# Altium integrated library Analog_Devices_Power_Management_Linear_Regulators.IntLib: 441 symbols (part 5 of 23)
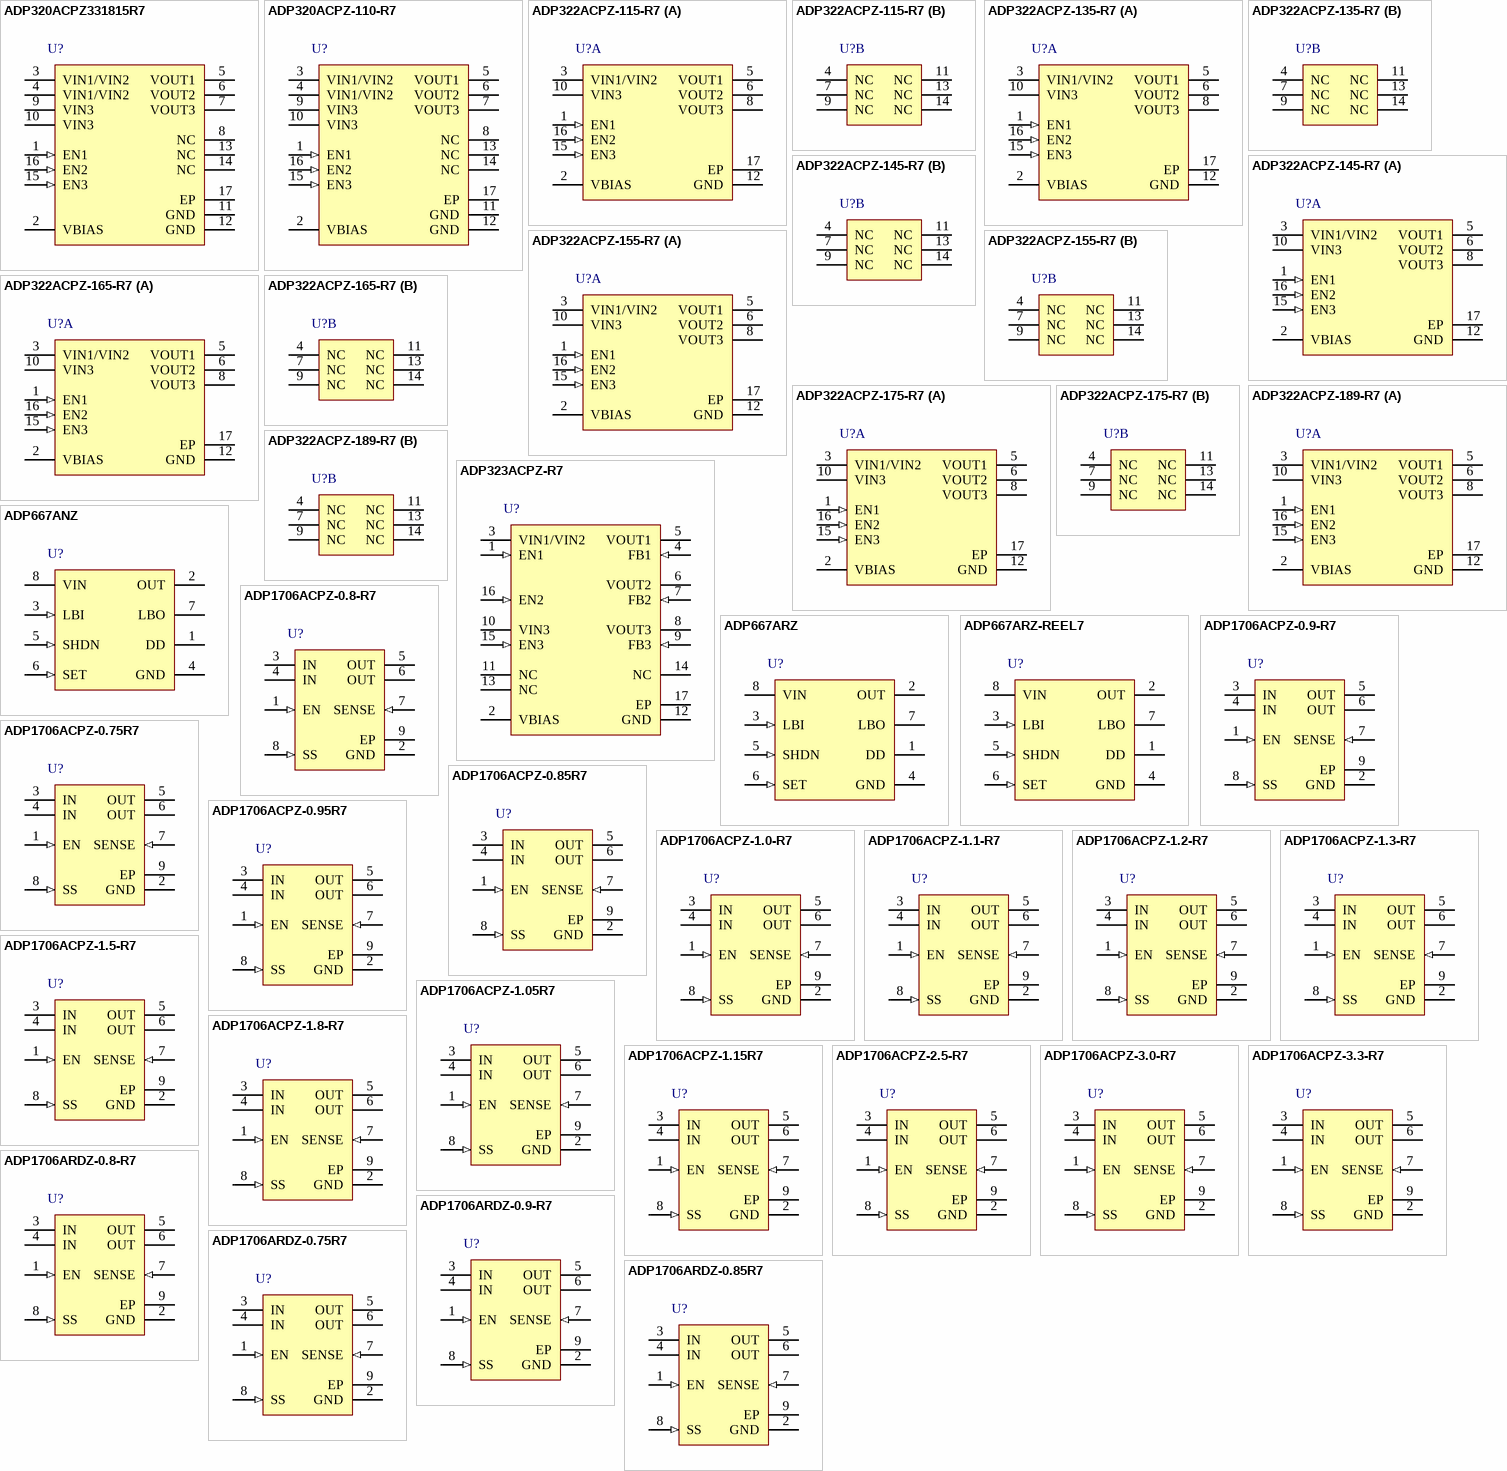
[diagram p15: symbols ADP320ACPZ331815R7 to ADP1706ARDZ-0.85R7]

## ADP322ACPZ-189-R7
designator U?
Triple, 200 mA, Low Noise, High PSRR Voltage Regulator, 2.5 to 5.5 V Vin, 1.2; 1.8; 2.5 V Vout, Industrial, 16-pin QFN (CP-16-27), Reel; Manufacturer: Analog Devices; PartNumber: ADP322ACPZ-189-R7; Iout max: 200mA; Supply Current IGND @ Small Load: 85uA; Vin (max) (V): 5.5; Vin (min) (V): 2.5; DatasheetVersion: Rev. A; PackageVersion: 091609-A, 09/2009; PackageReference: CP-16-27; PackageDescription: 16-Pin Lead Frame Chip Scale Package, Body 3 x 3 mm, Pitch 0.5 mm; Supplier 1: Digi-Key; Supplier Part Number 1: ADP322ACPZ-189-R7TR-ND; Supplier 2: Digi-Key; Supplier Part Number 2: ADP322ACPZ-189-R7CT-ND; Supplier 3: Digi-Key; Supplier Part Number 3: ADP322ACPZ-189-R7DKR-ND; Supplier 4: Mouser; Supplier Part Number 4: 584-ADP322ACPZ-189R7; Packing: Reel; Preset Vout Values (V): 1.2; 1.8; 2.5; Mounting Technology: Surface Mount; Code_JEDEC: MO-229; ComponentLink1Description: Manufacturer URL; ComponentLink1URL: http://www.analog.com/en/index.html; ComponentLink2Description: Datasheet; ComponentLink2URL: http://www.analog.com/static/imported-files/data_sheets/ADP322_323.pdf; ComponentLink3Description: Package Specification; ComponentLink3URL: http://www.analog.com/static/imported-files/packages/PKG_PDF/LFCSP(CP)/CP_16_27.pdf; ComponentLink4Description: URL Link1; ComponentLink4URL: Product URL:http://www.analog.com/en/ADP322/productSearch.html
footprint ADI-CP-16-27_N (QFN, 16-Leads, Body 3x3mm, Pitch 0.5mm, Thermal Pad 1.55X1.55mm, IPC Medium Density)
footprint ADI-CP-16-27_L (QFN, 16-Leads, Body 3x3mm, Pitch 0.5mm, Thermal Pad 1.55X1.55mm, IPC High Density)
footprint ADI-CP-16-27_M (QFN, 16-Leads, Body 3x3mm, Pitch 0.5mm, Thermal Pad 1.55X1.55mm, IPC Low Density)
part A pins: 1 EN1 (in) "Enable Input for Regulator 1. Drive EN1 high to turn on Regulator 1; drive it low to turn off Regulator 1. For automatic startup, connect EN1 to VBIAS.", 2 VBIAS (power) "Input Voltage Bias Supply. Bypass VBIAS to GND with a 1 uF or greater capacitor.", 3 VIN1/VIN2 (power) "Regulator Input Supply for Output Voltage 1 and Output Voltage 2. Bypass VIN1/VIN2 to GND with a 1 uF or greater capacitor.", 5 VOUT1 (power) "Regulated Output Voltage 1. Connect a 1 uF or greater output capacitor between VOUT1 and GND.", 6 VOUT2 (power) "Regulated Output Voltage 2. Connect a 1 uF or greater output capacitor between VOUT2 and GND.", 8 VOUT3 (power) "Regulated Output Voltage 3. Connect a 1 uF or greater output capacitor between VOUT3 and GND.", 10 VIN3 (power) "Regulator Input Supply for Output Voltage 3. Bypass VIN3 to GND with a 1 uF or greater capacitor.", 12 GND (power) "Ground Pin.", 15 EN3 (in) "Enable Input for Regulator 3. Drive EN3 high to turn on Regulator 3; drive it low to turn off Regulator 3. For automatic startup, connect EN3 to VBIAS.", 16 EN2 (in) "Enable Input for Regulator 2. Drive EN3 high to turn on Regulator 2; drive it low to turn off Regulator 2. For automatic startup, connect EN2 to VBIAS.", 17 EP (power) "Exposed pad for enhanced thermal performance. Connect to copper ground plane."
part B pins: 4 NC "Not connected internally.", 7 NC "Not connected internally.", 9 NC "Not connected internally.", 11 NC "Not connected internally.", 13 NC "Not connected internally.", 14 NC "Not connected internally."

## ADP323ACPZ-R7
designator U?
Triple, 200 mA, Low Noise, High PSRR Voltage Regulator, 2.5 to 5.5 V Vin, Adjustable Vout, Industrial, 16-pin QFN (CP-16-27), Reel; Manufacturer: Analog Devices; PartNumber: ADP323ACPZ-R7; Iout max: 200mA; Supply Current IGND @ Small Load: 85uA; Vin (max) (V): 5.5; Vin (min) (V): 2.5; Vout Adjustable Range: 0.5V to 5V; DatasheetVersion: Rev. A; PackageVersion: 091609-A, 09/2009; PackageReference: CP-16-27; PackageDescription: 16-Pin Lead Frame Chip Scale Package, Body 3 x 3 mm, Pitch 0.5 mm; Supplier 1: Digi-Key; Supplier Part Number 1: ADP323ACPZ-R7TR-ND; Supplier 2: Digi-Key; Supplier Part Number 2: ADP323ACPZ-R7CT-ND; Supplier 3: Digi-Key; Supplier Part Number 3: ADP323ACPZ-R7DKR-ND; Supplier 4: Farnell; Supplier Part Number 4: 1872637; Supplier 5: Newark; Supplier Part Number 5: 18T2040; Supplier 6: Mouser; Supplier Part Number 6: 584-ADP323ACPZ-R7; Packing: Reel; Mounting Technology: Surface Mount; Code_JEDEC: MO-229; ComponentLink1Description: Manufacturer URL; ComponentLink1URL: http://www.analog.com/en/index.html; ComponentLink2Description: Datasheet; ComponentLink2URL: http://www.analog.com/static/imported-files/data_sheets/ADP322_323.pdf; ComponentLink3Description: Package Specification; ComponentLink3URL: http://www.analog.com/static/imported-files/packages/PKG_PDF/LFCSP(CP)/CP_16_27.pdf; ComponentLink4Description: URL Link1; ComponentLink4URL: Product URL:http://www.analog.com/en/ADP323/productSearch.html
footprint ADI-CP-16-27_N (QFN, 16-Leads, Body 3x3mm, Pitch 0.5mm, Thermal Pad 1.55X1.55mm, IPC Medium Density)
footprint ADI-CP-16-27_L (QFN, 16-Leads, Body 3x3mm, Pitch 0.5mm, Thermal Pad 1.55X1.55mm, IPC High Density)
footprint ADI-CP-16-27_M (QFN, 16-Leads, Body 3x3mm, Pitch 0.5mm, Thermal Pad 1.55X1.55mm, IPC Low Density)
pins: 1 EN1 (in) "Enable Input for Regulator 1. Drive EN1 high to turn on Regulator 1; drive it low to turn off Regulator 1. For automatic startup, connect EN1 to VBIAS.", 2 VBIAS (power) "Input Voltage Bias Supply. Bypass VBIAS to GND with a 1 uF or greater capacitor.", 3 VIN1/VIN2 (power) "Regulator Input Supply for Output Voltage 1 and Output Voltage 2. Bypass VIN1/VIN2 to GND with a 1 uF or greater capacitor.", 4 FB1 (in) "Connect the midpoint of the voltage divider from VOUT1 to GND to set VOUT1.", 5 VOUT1 (power) "Regulated Output Voltage 1. Connect a 1 uF or greater output capacitor between VOUT1 and GND.", 6 VOUT2 (power) "Regulated Output Voltage 2. Connect a 1 uF or greater output capacitor between VOUT2 and GND.", 7 FB2 (in) "Connect the midpoint of the voltage divider from VOUT2 to GND to set VOUT2.", 8 VOUT3 (power) "Regulated Output Voltage 3. Connect a 1 uF or greater output capacitor between VOUT3 and GND.", 9 FB3 (in) "Connect the midpoint of the voltage divider from VOUT3 to GND to set VOUT3.", 10 VIN3 (power) "Regulator Input Supply for Output Voltage 3. Bypass VIN3 to GND with a 1 uF or greater capacitor.", 11 NC "Not connected internally.", 12 GND (power) "Ground Pin.", 13 NC "Not connected internally.", 14 NC "Not connected internally.", 15 EN3 (in) "Enable Input for Regulator 3. Drive EN3 high to turn on Regulator 3; drive it low to turn off Regulator 3. For automatic startup, connect EN3 to VBIAS.", 16 EN2 (in) "Enable Input for Regulator 2. Drive EN3 high to turn on Regulator 2; drive it low to turn off Regulator 2. For automatic startup, connect EN2 to VBIAS.", 17 EP (power) "Exposed pad for enhanced thermal performance. Connect to copper ground plane."

## ADP667ANZ
designator U?
Low-Dropout Linear Voltage Regulator, 3.5 to 16.5 V Vin, 5 V Vout, Industrial, 8-pin DIP (N-8), Tube; Manufacturer: Analog Devices; PartNumber: ADP667ANZ; Iout max: 250mA; Preset Vout Values (V): 5; Supply Current IGND @ Small Load: 20uA; Vin (max) (V): 16.5; Vin (min) (V): 3.5; Vout Adjustable Range: 1.3V to 16V; DatasheetVersion: Rev. 0; PackageVersion: 070606-A, 07/2006; PackageReference: N-8; PackageDescription: 8-Pin Plastic Dual In-Line Package, Row spacing 7.62 mm, Pitch 2.54 mm; Supplier 1: Digi-Key; Supplier Part Number 1: ADP667ANZ-ND; Supplier 2: Farnell; Supplier Part Number 2: 2376940; Supplier 3: Newark; Supplier Part Number 3: 23X6041; Supplier 4: Newark; Supplier Part Number 4: 59K2648; Supplier 5: Mouser; Supplier Part Number 5: 584-ADP667ANZ; Packing: Tube; Mounting Technology: Through Hole; Code_JEDEC: MS-001; ComponentLink1Description: Manufacturer URL; ComponentLink1URL: http://www.analog.com/en/index.html; ComponentLink2Description: Datasheet; ComponentLink2URL: http://www.analog.com/static/imported-files/data_sheets/ADP667.pdf; ComponentLink3Description: Package Specification; ComponentLink3URL: http:/www.analog.com/static/imported-files/packages/PKG_PDF/PDIP(N)/N_8.pdf; ComponentLink4Description: URL Link1; ComponentLink4URL: Product URL:http://www.analog.com/en/ADP667/productSearch.html
footprint ADI-N-8 (DIP, 8-Leads, Body 9.59x6.6mm, Pitch 2.54mm)
pins: 1 DD (oe) "Dropout Detector Output. PNP collector output which sources current as dropout is reached.", 2 OUT (power) "Regulated Output Voltage. Connect to filter capacitor.", 3 LBI (in) "Low Battery Detect Input. Compared with 1.255 V.", 4 GND (power) "Ground Pin. Must be connected to 0 V.", 5 SHDN (in) "Digital Input. May be used to disable the device so that the power consumption is minimized.", 6 SET (in) "Voltage Setting Input. Connect to GND for +5 V output or connect to resistive divider for adjustable output.", 7 LBO (oc) "Low Battery Detect Output. Open Drain Output that goes low when LBI is below the threshold.", 8 VIN (power) "Voltage Regulator Input."

## ADP667ARZ
designator U?
Low-Dropout Linear Voltage Regulator, 3.5 to 16.5 V Vin, 5 V Vout, Industrial, 8-pin SOIC (R-8), Tube; Manufacturer: Analog Devices; PartNumber: ADP667ARZ; Iout max: 250mA; Preset Vout Values (V): 5; Supply Current IGND @ Small Load: 20uA; Vin (max) (V): 16.5; Vin (min) (V): 3.5; Vout Adjustable Range: 1.3V to 16V; DatasheetVersion: Rev. 0; PackageVersion: 060506-A, 06/2006; PackageReference: R-8; PackageDescription: 8-Pin Standard Small Outline Package, Body 4.9 x 3.9 mm, Pitch 1.27 mm; Supplier 1: Digi-Key; Supplier Part Number 1: ADP667ARZ-ND; Supplier 2: Farnell; Supplier Part Number 2: 2305726; Supplier 3: Newark; Supplier Part Number 3: 84W7359; Supplier 4: Newark; Supplier Part Number 4: 59K2649; Supplier 5: Mouser; Supplier Part Number 5: 584-ADP667ARZ; Packing: Tube; Mounting Technology: Surface Mount; Code_JEDEC: MS-012-AA; ComponentLink1Description: Manufacturer URL; ComponentLink1URL: http://www.analog.com/en/index.html; ComponentLink2Description: Datasheet; ComponentLink2URL: http://www.analog.com/static/imported-files/data_sheets/ADP667.pdf; ComponentLink3Description: Package Specification; ComponentLink3URL: http://www.analog.com/static/imported-files/packages/PKG_PDF/SOIC_Narrow%20(R)/R_8.pdf; ComponentLink4Description: URL Link1; ComponentLink4URL: Product URL:http://www.analog.com/en/ADP667/productSearch.html
footprint ADI-R-8_N (SOIC, 8-Leads, Body 4.9x3.9mm, Pitch 1.27mm, IPC Medium Density)
footprint ADI-R-8_L (SOIC, 8-Leads, Body 4.9x3.9mm, Pitch 1.27mm, IPC High Density)
footprint ADI-R-8_M (SOIC, 8-Leads, Body 4.9x3.9mm, Pitch 1.27mm, IPC Low Density)
pins: 1 DD (oe) "Dropout Detector Output. PNP collector output which sources current as dropout is reached.", 2 OUT (power) "Regulated Output Voltage. Connect to filter capacitor.", 3 LBI (in) "Low Battery Detect Input. Compared with 1.255 V.", 4 GND (power) "Ground Pin. Must be connected to 0 V.", 5 SHDN (in) "Digital Input. May be used to disable the device so that the power consumption is minimized.", 6 SET (in) "Voltage Setting Input. Connect to GND for +5 V output or connect to resistive divider for adjustable output.", 7 LBO (oc) "Low Battery Detect Output. Open Drain Output that goes low when LBI is below the threshold.", 8 VIN (power) "Voltage Regulator Input."

## ADP667ARZ-REEL7
designator U?
Low-Dropout Linear Voltage Regulator, 3.5 to 16.5 V Vin, 5 V Vout, Industrial, 8-pin SOIC (R-8), Reel; Manufacturer: Analog Devices; PartNumber: ADP667ARZ-REEL7; Iout max: 250mA; Preset Vout Values (V): 5; Supply Current IGND @ Small Load: 20uA; Vin (max) (V): 16.5; Vin (min) (V): 3.5; Vout Adjustable Range: 1.3V to 16V; DatasheetVersion: Rev. 0; PackageVersion: 060506-A, 06/2006; PackageReference: R-8; PackageDescription: 8-Pin Standard Small Outline Package, Body 4.9 x 3.9 mm, Pitch 1.27 mm; Supplier 1: Digi-Key; Supplier Part Number 1: ADP667ARZ-REEL7TR-ND; Supplier 2: Digi-Key; Supplier Part Number 2: ADP667ARZ-REEL7CT-ND; Supplier 3: Digi-Key; Supplier Part Number 3: ADP667ARZ-REEL7DKR-ND; Supplier 4: Newark; Supplier Part Number 4: 59K2651; Supplier 5: Mouser; Supplier Part Number 5: 584-ADP667ARZ-R7; Packing: Reel; Mounting Technology: Surface Mount; Code_JEDEC: MS-012-AA; ComponentLink1Description: Manufacturer URL; ComponentLink1URL: http://www.analog.com/en/index.html; ComponentLink2Description: Datasheet; ComponentLink2URL: http://www.analog.com/static/imported-files/data_sheets/ADP667.pdf; ComponentLink3Description: Package Specification; ComponentLink3URL: http://www.analog.com/static/imported-files/packages/PKG_PDF/SOIC_Narrow%20(R)/R_8.pdf; ComponentLink4Description: URL Link1; ComponentLink4URL: Product URL:http://www.analog.com/en/ADP667/productSearch.html
footprint ADI-R-8_N (SOIC, 8-Leads, Body 4.9x3.9mm, Pitch 1.27mm, IPC Medium Density)
footprint ADI-R-8_L (SOIC, 8-Leads, Body 4.9x3.9mm, Pitch 1.27mm, IPC High Density)
footprint ADI-R-8_M (SOIC, 8-Leads, Body 4.9x3.9mm, Pitch 1.27mm, IPC Low Density)
pins: 1 DD (oe) "Dropout Detector Output. PNP collector output which sources current as dropout is reached.", 2 OUT (power) "Regulated Output Voltage. Connect to filter capacitor.", 3 LBI (in) "Low Battery Detect Input. Compared with 1.255 V.", 4 GND (power) "Ground Pin. Must be connected to 0 V.", 5 SHDN (in) "Digital Input. May be used to disable the device so that the power consumption is minimized.", 6 SET (in) "Voltage Setting Input. Connect to GND for +5 V output or connect to resistive divider for adjustable output.", 7 LBO (oc) "Low Battery Detect Output. Open Drain Output that goes low when LBI is below the threshold.", 8 VIN (power) "Voltage Regulator Input."

## ADP1706ACPZ-0.8-R7
designator U?
1 A, Low Dropout, CMOS Linear Regulator, 2.5 to 5.5 V Vin, 0.8 V Vout, Industrial, 8-pin QFN (CP-8-2), Reel; Manufacturer: Analog Devices; PartNumber: ADP1706ACPZ-0.8-R7; Iout max: 1A; Preset Vout Values (V): 0.8; Supply Current IGND @ Small Load: 50uA; Vin (max) (V): 5.5; Vin (min) (V): 2.5; DatasheetVersion: Rev. 0; PackageVersion: 061507-B, 06/2007; PackageReference: CP-8-2; PackageDescription: 8-Pin Lead Frame Chip Scale Package, Body 3 x 3 mm, Pitch 0.5 mm; Supplier 1: Digi-Key; Supplier Part Number 1: ADP1706ACPZ-0.8-R7TR-ND; Supplier 2: Digi-Key; Supplier Part Number 2: ADP1706ACPZ-0.8-R7CT-ND; Supplier 3: Digi-Key; Supplier Part Number 3: ADP1706ACPZ-0.8-R7DKR-ND; Supplier 4: Mouser; Supplier Part Number 4: 584-ADP1706ACPZ0.8R7; Packing: Reel; Mounting Technology: Surface Mount; ComponentLink1Description: Manufacturer URL; ComponentLink1URL: http://www.analog.com/en/index.html; ComponentLink2Description: Datasheet; ComponentLink2URL: http://www.analog.com/static/imported-files/data_sheets/ADP1706_1707_1708.pdf; ComponentLink3Description: Package Specification; ComponentLink3URL: http://www.analog.com/static/imported-files/packages/56953322593982CP_8_2.pdf; ComponentLink4Description: URL Link1; ComponentLink4URL: Product URL:http://www.analog.com/en/ADP1706/productSearch.html
footprint ADI-CP-8-2_N (QFN, 8-Leads, Body 3x3mm, Pitch 0.5mm, Thermal Pad 1.45X1.74mm, IPC Medium Density)
footprint ADI-CP-8-2_L (QFN, 8-Leads, Body 3x3mm, Pitch 0.5mm, Thermal Pad 1.45X1.74mm, IPC High Density)
footprint ADI-CP-8-2_M (QFN, 8-Leads, Body 3x3mm, Pitch 0.5mm, Thermal Pad 1.45X1.74mm, IPC Low Density)
pins: 1 EN (in) "Enable Input. Drive EN high to turn on the regulator; drive it low to turn off the regulator. For automatic startup, connect EN to IN.", 2 GND (power) "Ground.", 3 IN (power) "Regulator Input Supply. Bypass IN to GND with a 4.7 uF or greater capacitor.", 4 IN (power) "Regulator Input Supply. Bypass IN to GND with a 4.7 uF or greater capacitor.", 5 OUT (power) "Regulated Output Voltage. Bypass OUT to GND with a 4.7 uF or greater capacitor.", 6 OUT (power) "Regulated Output Voltage. Bypass OUT to GND with a 4.7 uF or greater capacitor.", 7 SENSE (in) "Sense. Measures the actual output voltage at the load and feeds it to the error amplifier. Connect SENSE as close as possible to the load to minimize the effect of IR drop between the regulator output and the load.", 8 SS (in) "Soft Start. A capacitor connected to this pin determines the soft start time.", 9 EP (power) "The exposed pad on the bottom of the SOIC package and the LFCSP package. EP enhances thermal performance and is electrically connected to GND inside the package. User is recommended to connect EP to the ground plane on the (See Datasheet)"

## ADP1706ACPZ-0.9-R7
designator U?
1 A, Low Dropout, CMOS Linear Regulator, 2.5 to 5.5 V Vin, 0.9 V Vout, Industrial, 8-pin QFN (CP-8-2), Reel; Manufacturer: Analog Devices; PartNumber: ADP1706ACPZ-0.9-R7; Iout max: 1A; Preset Vout Values (V): 0.9; Supply Current IGND @ Small Load: 50uA; Vin (max) (V): 5.5; Vin (min) (V): 2.5; DatasheetVersion: Rev. 0; PackageVersion: 061507-B, 06/2007; PackageReference: CP-8-2; PackageDescription: 8-Pin Lead Frame Chip Scale Package, Body 3 x 3 mm, Pitch 0.5 mm; Supplier 1: Digi-Key; Supplier Part Number 1: ADP1706ACPZ-0.9-R7TR-ND; Supplier 2: Digi-Key; Supplier Part Number 2: ADP1706ACPZ-0.9-R7CT-ND; Supplier 3: Digi-Key; Supplier Part Number 3: ADP1706ACPZ-0.9-R7DKR-ND; Supplier 4: Mouser; Supplier Part Number 4: 584-ADP1706ACPZ0.9R7; Packing: Reel; Mounting Technology: Surface Mount; ComponentLink1Description: Manufacturer URL; ComponentLink1URL: http://www.analog.com/en/index.html; ComponentLink2Description: Datasheet; ComponentLink2URL: http://www.analog.com/static/imported-files/data_sheets/ADP1706_1707_1708.pdf; ComponentLink3Description: Package Specification; ComponentLink3URL: http://www.analog.com/static/imported-files/packages/56953322593982CP_8_2.pdf; ComponentLink4Description: URL Link1; ComponentLink4URL: Product URL:http://www.analog.com/en/ADP1706/productSearch.html
footprint ADI-CP-8-2_N (QFN, 8-Leads, Body 3x3mm, Pitch 0.5mm, Thermal Pad 1.45X1.74mm, IPC Medium Density)
footprint ADI-CP-8-2_L (QFN, 8-Leads, Body 3x3mm, Pitch 0.5mm, Thermal Pad 1.45X1.74mm, IPC High Density)
footprint ADI-CP-8-2_M (QFN, 8-Leads, Body 3x3mm, Pitch 0.5mm, Thermal Pad 1.45X1.74mm, IPC Low Density)
pins: 1 EN (in) "Enable Input. Drive EN high to turn on the regulator; drive it low to turn off the regulator. For automatic startup, connect EN to IN.", 2 GND (power) "Ground.", 3 IN (power) "Regulator Input Supply. Bypass IN to GND with a 4.7 uF or greater capacitor.", 4 IN (power) "Regulator Input Supply. Bypass IN to GND with a 4.7 uF or greater capacitor.", 5 OUT (power) "Regulated Output Voltage. Bypass OUT to GND with a 4.7 uF or greater capacitor.", 6 OUT (power) "Regulated Output Voltage. Bypass OUT to GND with a 4.7 uF or greater capacitor.", 7 SENSE (in) "Sense. Measures the actual output voltage at the load and feeds it to the error amplifier. Connect SENSE as close as possible to the load to minimize the effect of IR drop between the regulator output and the load.", 8 SS (in) "Soft Start. A capacitor connected to this pin determines the soft start time.", 9 EP (power) "The exposed pad on the bottom of the SOIC package and the LFCSP package. EP enhances thermal performance and is electrically connected to GND inside the package. User is recommended to connect EP to the ground plane on the (See Datasheet)"

## ADP1706ACPZ-0.75R7
designator U?
1 A, Low Dropout, CMOS Linear Regulator, 2.5 to 5.5 V Vin, 0.75 V Vout, Industrial, 8-pin QFN (CP-8-2), Reel; Manufacturer: Analog Devices; PartNumber: ADP1706ACPZ-0.75R7; Iout max: 1A; Preset Vout Values (V): 0.75; Supply Current IGND @ Small Load: 50uA; Vin (max) (V): 5.5; Vin (min) (V): 2.5; DatasheetVersion: Rev. 0; PackageVersion: 061507-B, 06/2007; PackageReference: CP-8-2; PackageDescription: 8-Pin Lead Frame Chip Scale Package, Body 3 x 3 mm, Pitch 0.5 mm; Supplier 1: Digi-Key; Supplier Part Number 1: ADP1706ACPZ-0.75R7TR-ND; Supplier 2: Digi-Key; Supplier Part Number 2: ADP1706ACPZ-0.75R7CT-ND; Supplier 3: Digi-Key; Supplier Part Number 3: ADP1706ACPZ-0.75R7DKR-ND; Supplier 4: Mouser; Supplier Part Number 4: 584-AP1706ACPZ0.75R7; Packing: Reel; Mounting Technology: Surface Mount; ComponentLink1Description: Manufacturer URL; ComponentLink1URL: http://www.analog.com/en/index.html; ComponentLink2Description: Datasheet; ComponentLink2URL: http://www.analog.com/static/imported-files/data_sheets/ADP1706_1707_1708.pdf; ComponentLink3Description: Package Specification; ComponentLink3URL: http://www.analog.com/static/imported-files/packages/56953322593982CP_8_2.pdf; ComponentLink4Description: URL Link1; ComponentLink4URL: Product URL:http://www.analog.com/en/ADP1706/productSearch.html
footprint ADI-CP-8-2_N (QFN, 8-Leads, Body 3x3mm, Pitch 0.5mm, Thermal Pad 1.45X1.74mm, IPC Medium Density)
footprint ADI-CP-8-2_L (QFN, 8-Leads, Body 3x3mm, Pitch 0.5mm, Thermal Pad 1.45X1.74mm, IPC High Density)
footprint ADI-CP-8-2_M (QFN, 8-Leads, Body 3x3mm, Pitch 0.5mm, Thermal Pad 1.45X1.74mm, IPC Low Density)
pins: 1 EN (in) "Enable Input. Drive EN high to turn on the regulator; drive it low to turn off the regulator. For automatic startup, connect EN to IN.", 2 GND (power) "Ground.", 3 IN (power) "Regulator Input Supply. Bypass IN to GND with a 4.7 uF or greater capacitor.", 4 IN (power) "Regulator Input Supply. Bypass IN to GND with a 4.7 uF or greater capacitor.", 5 OUT (power) "Regulated Output Voltage. Bypass OUT to GND with a 4.7 uF or greater capacitor.", 6 OUT (power) "Regulated Output Voltage. Bypass OUT to GND with a 4.7 uF or greater capacitor.", 7 SENSE (in) "Sense. Measures the actual output voltage at the load and feeds it to the error amplifier. Connect SENSE as close as possible to the load to minimize the effect of IR drop between the regulator output and the load.", 8 SS (in) "Soft Start. A capacitor connected to this pin determines the soft start time.", 9 EP (power) "The exposed pad on the bottom of the SOIC package and the LFCSP package. EP enhances thermal performance and is electrically connected to GND inside the package. User is recommended to connect EP to the ground plane on the (See Datasheet)"

## ADP1706ACPZ-0.85R7
designator U?
1 A, Low Dropout, CMOS Linear Regulator, 2.5 to 5.5 V Vin, 0.85 V Vout, Industrial, 8-pin QFN (CP-8-2), Reel; Manufacturer: Analog Devices; PartNumber: ADP1706ACPZ-0.85R7; Iout max: 1A; Preset Vout Values (V): 0.85; Supply Current IGND @ Small Load: 50uA; Vin (max) (V): 5.5; Vin (min) (V): 2.5; DatasheetVersion: Rev. 0; PackageVersion: 061507-B, 06/2007; PackageReference: CP-8-2; PackageDescription: 8-Pin Lead Frame Chip Scale Package, Body 3 x 3 mm, Pitch 0.5 mm; Supplier 1: Digi-Key; Supplier Part Number 1: ADP1706ACPZ-0.85R7TR-ND; Supplier 2: Digi-Key; Supplier Part Number 2: ADP1706ACPZ-0.85R7CT-ND; Supplier 3: Digi-Key; Supplier Part Number 3: ADP1706ACPZ-0.85R7DKR-ND; Supplier 4: Mouser; Supplier Part Number 4: 584-AP1706ACPZ0.85R7; Packing: Reel; Mounting Technology: Surface Mount; ComponentLink1Description: Manufacturer URL; ComponentLink1URL: http://www.analog.com/en/index.html; ComponentLink2Description: Datasheet; ComponentLink2URL: http://www.analog.com/static/imported-files/data_sheets/ADP1706_1707_1708.pdf; ComponentLink3Description: Package Specification; ComponentLink3URL: http://www.analog.com/static/imported-files/packages/56953322593982CP_8_2.pdf; ComponentLink4Description: URL Link1; ComponentLink4URL: Product URL:http://www.analog.com/en/ADP1706/productSearch.html
footprint ADI-CP-8-2_N (QFN, 8-Leads, Body 3x3mm, Pitch 0.5mm, Thermal Pad 1.45X1.74mm, IPC Medium Density)
footprint ADI-CP-8-2_L (QFN, 8-Leads, Body 3x3mm, Pitch 0.5mm, Thermal Pad 1.45X1.74mm, IPC High Density)
footprint ADI-CP-8-2_M (QFN, 8-Leads, Body 3x3mm, Pitch 0.5mm, Thermal Pad 1.45X1.74mm, IPC Low Density)
pins: 1 EN (in) "Enable Input. Drive EN high to turn on the regulator; drive it low to turn off the regulator. For automatic startup, connect EN to IN.", 2 GND (power) "Ground.", 3 IN (power) "Regulator Input Supply. Bypass IN to GND with a 4.7 uF or greater capacitor.", 4 IN (power) "Regulator Input Supply. Bypass IN to GND with a 4.7 uF or greater capacitor.", 5 OUT (power) "Regulated Output Voltage. Bypass OUT to GND with a 4.7 uF or greater capacitor.", 6 OUT (power) "Regulated Output Voltage. Bypass OUT to GND with a 4.7 uF or greater capacitor.", 7 SENSE (in) "Sense. Measures the actual output voltage at the load and feeds it to the error amplifier. Connect SENSE as close as possible to the load to minimize the effect of IR drop between the regulator output and the load.", 8 SS (in) "Soft Start. A capacitor connected to this pin determines the soft start time.", 9 EP (power) "The exposed pad on the bottom of the SOIC package and the LFCSP package. EP enhances thermal performance and is electrically connected to GND inside the package. User is recommended to connect EP to the ground plane on the (See Datasheet)"

## ADP1706ACPZ-0.95R7
designator U?
1 A, Low Dropout, CMOS Linear Regulator, 2.5 to 5.5 V Vin, 0.95 V Vout, Industrial, 8-pin QFN (CP-8-2), Reel; Manufacturer: Analog Devices; PartNumber: ADP1706ACPZ-0.95R7; Iout max: 1A; Preset Vout Values (V): 0.95; Supply Current IGND @ Small Load: 50uA; Vin (max) (V): 5.5; Vin (min) (V): 2.5; DatasheetVersion: Rev. 0; PackageVersion: 061507-B, 06/2007; PackageReference: CP-8-2; PackageDescription: 8-Pin Lead Frame Chip Scale Package, Body 3 x 3 mm, Pitch 0.5 mm; Supplier 1: Digi-Key; Supplier Part Number 1: ADP1706ACPZ-0.95R7TR-ND; Supplier 2: Digi-Key; Supplier Part Number 2: ADP1706ACPZ-0.95R7CT-ND; Supplier 3: Digi-Key; Supplier Part Number 3: ADP1706ACPZ-0.95R7DKR-ND; Supplier 4: Mouser; Supplier Part Number 4: 584-AP1706ACPZ0.95R7; Packing: Reel; Mounting Technology: Surface Mount; ComponentLink1Description: Manufacturer URL; ComponentLink1URL: http://www.analog.com/en/index.html; ComponentLink2Description: Datasheet; ComponentLink2URL: http://www.analog.com/static/imported-files/data_sheets/ADP1706_1707_1708.pdf; ComponentLink3Description: Package Specification; ComponentLink3URL: http://www.analog.com/static/imported-files/packages/56953322593982CP_8_2.pdf; ComponentLink4Description: URL Link1; ComponentLink4URL: Product URL:http://www.analog.com/en/ADP1706/productSearch.html
footprint ADI-CP-8-2_N (QFN, 8-Leads, Body 3x3mm, Pitch 0.5mm, Thermal Pad 1.45X1.74mm, IPC Medium Density)
footprint ADI-CP-8-2_L (QFN, 8-Leads, Body 3x3mm, Pitch 0.5mm, Thermal Pad 1.45X1.74mm, IPC High Density)
footprint ADI-CP-8-2_M (QFN, 8-Leads, Body 3x3mm, Pitch 0.5mm, Thermal Pad 1.45X1.74mm, IPC Low Density)
pins: 1 EN (in) "Enable Input. Drive EN high to turn on the regulator; drive it low to turn off the regulator. For automatic startup, connect EN to IN.", 2 GND (power) "Ground.", 3 IN (power) "Regulator Input Supply. Bypass IN to GND with a 4.7 uF or greater capacitor.", 4 IN (power) "Regulator Input Supply. Bypass IN to GND with a 4.7 uF or greater capacitor.", 5 OUT (power) "Regulated Output Voltage. Bypass OUT to GND with a 4.7 uF or greater capacitor.", 6 OUT (power) "Regulated Output Voltage. Bypass OUT to GND with a 4.7 uF or greater capacitor.", 7 SENSE (in) "Sense. Measures the actual output voltage at the load and feeds it to the error amplifier. Connect SENSE as close as possible to the load to minimize the effect of IR drop between the regulator output and the load.", 8 SS (in) "Soft Start. A capacitor connected to this pin determines the soft start time.", 9 EP (power) "The exposed pad on the bottom of the SOIC package and the LFCSP package. EP enhances thermal performance and is electrically connected to GND inside the package. User is recommended to connect EP to the ground plane on the (See Datasheet)"

## ADP1706ACPZ-1.0-R7
designator U?
1 A, Low Dropout, CMOS Linear Regulator, 2.5 to 5.5 V Vin, 1 V Vout, Industrial, 8-pin QFN (CP-8-2), Reel; Manufacturer: Analog Devices; PartNumber: ADP1706ACPZ-1.0-R7; Iout max: 1A; Preset Vout Values (V): 1.0; Supply Current IGND @ Small Load: 50uA; Vin (max) (V): 5.5; Vin (min) (V): 2.5; DatasheetVersion: Rev. 0; PackageVersion: 061507-B, 06/2007; PackageReference: CP-8-2; PackageDescription: 8-Pin Lead Frame Chip Scale Package, Body 3 x 3 mm, Pitch 0.5 mm; Supplier 1: Digi-Key; Supplier Part Number 1: ADP1706ACPZ-1.0-R7TR-ND; Supplier 2: Digi-Key; Supplier Part Number 2: ADP1706ACPZ-1.0-R7CT-ND; Supplier 3: Digi-Key; Supplier Part Number 3: ADP1706ACPZ-1.0-R7DKR-ND; Supplier 4: Mouser; Supplier Part Number 4: 584-ADP1706ACPZ1.0R7; Packing: Reel; Mounting Technology: Surface Mount; ComponentLink1Description: Manufacturer URL; ComponentLink1URL: http://www.analog.com/en/index.html; ComponentLink2Description: Datasheet; ComponentLink2URL: http://www.analog.com/static/imported-files/data_sheets/ADP1706_1707_1708.pdf; ComponentLink3Description: Package Specification; ComponentLink3URL: http://www.analog.com/static/imported-files/packages/56953322593982CP_8_2.pdf; ComponentLink4Description: URL Link1; ComponentLink4URL: Product URL:http://www.analog.com/en/ADP1706/productSearch.html
footprint ADI-CP-8-2_N (QFN, 8-Leads, Body 3x3mm, Pitch 0.5mm, Thermal Pad 1.45X1.74mm, IPC Medium Density)
footprint ADI-CP-8-2_L (QFN, 8-Leads, Body 3x3mm, Pitch 0.5mm, Thermal Pad 1.45X1.74mm, IPC High Density)
footprint ADI-CP-8-2_M (QFN, 8-Leads, Body 3x3mm, Pitch 0.5mm, Thermal Pad 1.45X1.74mm, IPC Low Density)
pins: 1 EN (in) "Enable Input. Drive EN high to turn on the regulator; drive it low to turn off the regulator. For automatic startup, connect EN to IN.", 2 GND (power) "Ground.", 3 IN (power) "Regulator Input Supply. Bypass IN to GND with a 4.7 uF or greater capacitor.", 4 IN (power) "Regulator Input Supply. Bypass IN to GND with a 4.7 uF or greater capacitor.", 5 OUT (power) "Regulated Output Voltage. Bypass OUT to GND with a 4.7 uF or greater capacitor.", 6 OUT (power) "Regulated Output Voltage. Bypass OUT to GND with a 4.7 uF or greater capacitor.", 7 SENSE (in) "Sense. Measures the actual output voltage at the load and feeds it to the error amplifier. Connect SENSE as close as possible to the load to minimize the effect of IR drop between the regulator output and the load.", 8 SS (in) "Soft Start. A capacitor connected to this pin determines the soft start time.", 9 EP (power) "The exposed pad on the bottom of the SOIC package and the LFCSP package. EP enhances thermal performance and is electrically connected to GND inside the package. User is recommended to connect EP to the ground plane on the (See Datasheet)"

## ADP1706ACPZ-1.1-R7
designator U?
1 A, Low Dropout, CMOS Linear Regulator, 2.5 to 5.5 V Vin, 1.1 V Vout, Industrial, 8-pin QFN (CP-8-2), Reel; Manufacturer: Analog Devices; PartNumber: ADP1706ACPZ-1.1-R7; Iout max: 1A; Preset Vout Values (V): 1.1; Supply Current IGND @ Small Load: 50uA; Vin (max) (V): 5.5; Vin (min) (V): 2.5; DatasheetVersion: Rev. 0; PackageVersion: 061507-B, 06/2007; PackageReference: CP-8-2; PackageDescription: 8-Pin Lead Frame Chip Scale Package, Body 3 x 3 mm, Pitch 0.5 mm; Supplier 1: Digi-Key; Supplier Part Number 1: ADP1706ACPZ-1.1-R7TR-ND; Supplier 2: Digi-Key; Supplier Part Number 2: ADP1706ACPZ-1.1-R7CT-ND; Supplier 3: Digi-Key; Supplier Part Number 3: ADP1706ACPZ-1.1-R7DKR-ND; Supplier 4: Mouser; Supplier Part Number 4: 584-ADP1706ACPZ1.1R7; Packing: Reel; Mounting Technology: Surface Mount; ComponentLink1Description: Manufacturer URL; ComponentLink1URL: http://www.analog.com/en/index.html; ComponentLink2Description: Datasheet; ComponentLink2URL: http://www.analog.com/static/imported-files/data_sheets/ADP1706_1707_1708.pdf; ComponentLink3Description: Package Specification; ComponentLink3URL: http://www.analog.com/static/imported-files/packages/56953322593982CP_8_2.pdf; ComponentLink4Description: URL Link1; ComponentLink4URL: Product URL:http://www.analog.com/en/ADP1706/productSearch.html
footprint ADI-CP-8-2_N (QFN, 8-Leads, Body 3x3mm, Pitch 0.5mm, Thermal Pad 1.45X1.74mm, IPC Medium Density)
footprint ADI-CP-8-2_L (QFN, 8-Leads, Body 3x3mm, Pitch 0.5mm, Thermal Pad 1.45X1.74mm, IPC High Density)
footprint ADI-CP-8-2_M (QFN, 8-Leads, Body 3x3mm, Pitch 0.5mm, Thermal Pad 1.45X1.74mm, IPC Low Density)
pins: 1 EN (in) "Enable Input. Drive EN high to turn on the regulator; drive it low to turn off the regulator. For automatic startup, connect EN to IN.", 2 GND (power) "Ground.", 3 IN (power) "Regulator Input Supply. Bypass IN to GND with a 4.7 uF or greater capacitor.", 4 IN (power) "Regulator Input Supply. Bypass IN to GND with a 4.7 uF or greater capacitor.", 5 OUT (power) "Regulated Output Voltage. Bypass OUT to GND with a 4.7 uF or greater capacitor.", 6 OUT (power) "Regulated Output Voltage. Bypass OUT to GND with a 4.7 uF or greater capacitor.", 7 SENSE (in) "Sense. Measures the actual output voltage at the load and feeds it to the error amplifier. Connect SENSE as close as possible to the load to minimize the effect of IR drop between the regulator output and the load.", 8 SS (in) "Soft Start. A capacitor connected to this pin determines the soft start time.", 9 EP (power) "The exposed pad on the bottom of the SOIC package and the LFCSP package. EP enhances thermal performance and is electrically connected to GND inside the package. User is recommended to connect EP to the ground plane on the (See Datasheet)"

## ADP1706ACPZ-1.2-R7
designator U?
1 A, Low Dropout, CMOS Linear Regulator, 2.5 to 5.5 V Vin, 1.2 V Vout, Industrial, 8-pin QFN (CP-8-2), Reel; Manufacturer: Analog Devices; PartNumber: ADP1706ACPZ-1.2-R7; Iout max: 1A; Preset Vout Values (V): 1.2; Supply Current IGND @ Small Load: 50uA; Vin (max) (V): 5.5; Vin (min) (V): 2.5; DatasheetVersion: Rev. 0; PackageVersion: 061507-B, 06/2007; PackageReference: CP-8-2; PackageDescription: 8-Pin Lead Frame Chip Scale Package, Body 3 x 3 mm, Pitch 0.5 mm; Supplier 1: Digi-Key; Supplier Part Number 1: ADP1706ACPZ-1.2-R7TR-ND; Supplier 2: Digi-Key; Supplier Part Number 2: ADP1706ACPZ-1.2-R7CT-ND; Supplier 3: Digi-Key; Supplier Part Number 3: ADP1706ACPZ-1.2-R7DKR-ND; Supplier 4: Mouser; Supplier Part Number 4: 584-ADP1706ACPZ1.2R7; Packing: Reel; Mounting Technology: Surface Mount; ComponentLink1Description: Manufacturer URL; ComponentLink1URL: http://www.analog.com/en/index.html; ComponentLink2Description: Datasheet; ComponentLink2URL: http://www.analog.com/static/imported-files/data_sheets/ADP1706_1707_1708.pdf; ComponentLink3Description: Package Specification; ComponentLink3URL: http://www.analog.com/static/imported-files/packages/56953322593982CP_8_2.pdf; ComponentLink4Description: URL Link1; ComponentLink4URL: Product URL:http://www.analog.com/en/ADP1706/productSearch.html
footprint ADI-CP-8-2_N (QFN, 8-Leads, Body 3x3mm, Pitch 0.5mm, Thermal Pad 1.45X1.74mm, IPC Medium Density)
footprint ADI-CP-8-2_L (QFN, 8-Leads, Body 3x3mm, Pitch 0.5mm, Thermal Pad 1.45X1.74mm, IPC High Density)
footprint ADI-CP-8-2_M (QFN, 8-Leads, Body 3x3mm, Pitch 0.5mm, Thermal Pad 1.45X1.74mm, IPC Low Density)
pins: 1 EN (in) "Enable Input. Drive EN high to turn on the regulator; drive it low to turn off the regulator. For automatic startup, connect EN to IN.", 2 GND (power) "Ground.", 3 IN (power) "Regulator Input Supply. Bypass IN to GND with a 4.7 uF or greater capacitor.", 4 IN (power) "Regulator Input Supply. Bypass IN to GND with a 4.7 uF or greater capacitor.", 5 OUT (power) "Regulated Output Voltage. Bypass OUT to GND with a 4.7 uF or greater capacitor.", 6 OUT (power) "Regulated Output Voltage. Bypass OUT to GND with a 4.7 uF or greater capacitor.", 7 SENSE (in) "Sense. Measures the actual output voltage at the load and feeds it to the error amplifier. Connect SENSE as close as possible to the load to minimize the effect of IR drop between the regulator output and the load.", 8 SS (in) "Soft Start. A capacitor connected to this pin determines the soft start time.", 9 EP (power) "The exposed pad on the bottom of the SOIC package and the LFCSP package. EP enhances thermal performance and is electrically connected to GND inside the package. User is recommended to connect EP to the ground plane on the (See Datasheet)"

## ADP1706ACPZ-1.3-R7
designator U?
1 A, Low Dropout, CMOS Linear Regulator, 2.5 to 5.5 V Vin, 1.3 V Vout, Industrial, 8-pin QFN (CP-8-2), Reel; Manufacturer: Analog Devices; PartNumber: ADP1706ACPZ-1.3-R7; Iout max: 1A; Preset Vout Values (V): 1.3; Supply Current IGND @ Small Load: 50uA; Vin (max) (V): 5.5; Vin (min) (V): 2.5; DatasheetVersion: Rev. 0; PackageVersion: 061507-B, 06/2007; PackageReference: CP-8-2; PackageDescription: 8-Pin Lead Frame Chip Scale Package, Body 3 x 3 mm, Pitch 0.5 mm; Supplier 1: Digi-Key; Supplier Part Number 1: ADP1706ACPZ-1.3-R7TR-ND; Supplier 2: Digi-Key; Supplier Part Number 2: ADP1706ACPZ-1.3-R7CT-ND; Supplier 3: Digi-Key; Supplier Part Number 3: ADP1706ACPZ-1.3-R7DKR-ND; Supplier 4: Mouser; Supplier Part Number 4: 584-ADP1706ACPZ1.3R7; Packing: Reel; Mounting Technology: Surface Mount; ComponentLink1Description: Manufacturer URL; ComponentLink1URL: http://www.analog.com/en/index.html; ComponentLink2Description: Datasheet; ComponentLink2URL: http://www.analog.com/static/imported-files/data_sheets/ADP1706_1707_1708.pdf; ComponentLink3Description: Package Specification; ComponentLink3URL: http://www.analog.com/static/imported-files/packages/56953322593982CP_8_2.pdf; ComponentLink4Description: URL Link1; ComponentLink4URL: Product URL:http://www.analog.com/en/ADP1706/productSearch.html
footprint ADI-CP-8-2_N (QFN, 8-Leads, Body 3x3mm, Pitch 0.5mm, Thermal Pad 1.45X1.74mm, IPC Medium Density)
footprint ADI-CP-8-2_L (QFN, 8-Leads, Body 3x3mm, Pitch 0.5mm, Thermal Pad 1.45X1.74mm, IPC High Density)
footprint ADI-CP-8-2_M (QFN, 8-Leads, Body 3x3mm, Pitch 0.5mm, Thermal Pad 1.45X1.74mm, IPC Low Density)
pins: 1 EN (in) "Enable Input. Drive EN high to turn on the regulator; drive it low to turn off the regulator. For automatic startup, connect EN to IN.", 2 GND (power) "Ground.", 3 IN (power) "Regulator Input Supply. Bypass IN to GND with a 4.7 uF or greater capacitor.", 4 IN (power) "Regulator Input Supply. Bypass IN to GND with a 4.7 uF or greater capacitor.", 5 OUT (power) "Regulated Output Voltage. Bypass OUT to GND with a 4.7 uF or greater capacitor.", 6 OUT (power) "Regulated Output Voltage. Bypass OUT to GND with a 4.7 uF or greater capacitor.", 7 SENSE (in) "Sense. Measures the actual output voltage at the load and feeds it to the error amplifier. Connect SENSE as close as possible to the load to minimize the effect of IR drop between the regulator output and the load.", 8 SS (in) "Soft Start. A capacitor connected to this pin determines the soft start time.", 9 EP (power) "The exposed pad on the bottom of the SOIC package and the LFCSP package. EP enhances thermal performance and is electrically connected to GND inside the package. User is recommended to connect EP to the ground plane on the (See Datasheet)"

## ADP1706ACPZ-1.5-R7
designator U?
1 A, Low Dropout, CMOS Linear Regulator, 2.5 to 5.5 V Vin, 1.5 V Vout, Industrial, 8-pin QFN (CP-8-2), Reel; Manufacturer: Analog Devices; PartNumber: ADP1706ACPZ-1.5-R7; Iout max: 1A; Preset Vout Values (V): 1.5; Supply Current IGND @ Small Load: 50uA; Vin (max) (V): 5.5; Vin (min) (V): 2.5; DatasheetVersion: Rev. 0; PackageVersion: 061507-B, 06/2007; PackageReference: CP-8-2; PackageDescription: 8-Pin Lead Frame Chip Scale Package, Body 3 x 3 mm, Pitch 0.5 mm; Supplier 1: Digi-Key; Supplier Part Number 1: ADP1706ACPZ-1.5-R7TR-ND; Supplier 2: Digi-Key; Supplier Part Number 2: ADP1706ACPZ-1.5-R7CT-ND; Supplier 3: Digi-Key; Supplier Part Number 3: ADP1706ACPZ-1.5-R7DKR-ND; Supplier 4: Mouser; Supplier Part Number 4: 584-ADP1706ACPZ1.5R7; Packing: Reel; Mounting Technology: Surface Mount; ComponentLink1Description: Manufacturer URL; ComponentLink1URL: http://www.analog.com/en/index.html; ComponentLink2Description: Datasheet; ComponentLink2URL: http://www.analog.com/static/imported-files/data_sheets/ADP1706_1707_1708.pdf; ComponentLink3Description: Package Specification; ComponentLink3URL: http://www.analog.com/static/imported-files/packages/56953322593982CP_8_2.pdf; ComponentLink4Description: URL Link1; ComponentLink4URL: Product URL:http://www.analog.com/en/ADP1706/productSearch.html
footprint ADI-CP-8-2_N (QFN, 8-Leads, Body 3x3mm, Pitch 0.5mm, Thermal Pad 1.45X1.74mm, IPC Medium Density)
footprint ADI-CP-8-2_L (QFN, 8-Leads, Body 3x3mm, Pitch 0.5mm, Thermal Pad 1.45X1.74mm, IPC High Density)
footprint ADI-CP-8-2_M (QFN, 8-Leads, Body 3x3mm, Pitch 0.5mm, Thermal Pad 1.45X1.74mm, IPC Low Density)
pins: 1 EN (in) "Enable Input. Drive EN high to turn on the regulator; drive it low to turn off the regulator. For automatic startup, connect EN to IN.", 2 GND (power) "Ground.", 3 IN (power) "Regulator Input Supply. Bypass IN to GND with a 4.7 uF or greater capacitor.", 4 IN (power) "Regulator Input Supply. Bypass IN to GND with a 4.7 uF or greater capacitor.", 5 OUT (power) "Regulated Output Voltage. Bypass OUT to GND with a 4.7 uF or greater capacitor.", 6 OUT (power) "Regulated Output Voltage. Bypass OUT to GND with a 4.7 uF or greater capacitor.", 7 SENSE (in) "Sense. Measures the actual output voltage at the load and feeds it to the error amplifier. Connect SENSE as close as possible to the load to minimize the effect of IR drop between the regulator output and the load.", 8 SS (in) "Soft Start. A capacitor connected to this pin determines the soft start time.", 9 EP (power) "The exposed pad on the bottom of the SOIC package and the LFCSP package. EP enhances thermal performance and is electrically connected to GND inside the package. User is recommended to connect EP to the ground plane on the (See Datasheet)"

## ADP1706ACPZ-1.05R7
designator U?
1 A, Low Dropout, CMOS Linear Regulator, 2.5 to 5.5 V Vin, 1.05 V Vout, Industrial, 8-pin QFN (CP-8-2), Reel; Manufacturer: Analog Devices; PartNumber: ADP1706ACPZ-1.05R7; Iout max: 1A; Preset Vout Values (V): 1.05; Supply Current IGND @ Small Load: 50uA; Vin (max) (V): 5.5; Vin (min) (V): 2.5; DatasheetVersion: Rev. 0; PackageVersion: 061507-B, 06/2007; PackageReference: CP-8-2; PackageDescription: 8-Pin Lead Frame Chip Scale Package, Body 3 x 3 mm, Pitch 0.5 mm; Supplier 1: Digi-Key; Supplier Part Number 1: ADP1706ACPZ-1.05R7TR-ND; Supplier 2: Digi-Key; Supplier Part Number 2: ADP1706ACPZ-1.05R7CT-ND; Supplier 3: Digi-Key; Supplier Part Number 3: ADP1706ACPZ-1.05R7DKR-ND; Supplier 4: Mouser; Supplier Part Number 4: 584-AP1706ACPZ1.05R7; Packing: Reel; Mounting Technology: Surface Mount; ComponentLink1Description: Manufacturer URL; ComponentLink1URL: http://www.analog.com/en/index.html; ComponentLink2Description: Datasheet; ComponentLink2URL: http://www.analog.com/static/imported-files/data_sheets/ADP1706_1707_1708.pdf; ComponentLink3Description: Package Specification; ComponentLink3URL: http://www.analog.com/static/imported-files/packages/56953322593982CP_8_2.pdf; ComponentLink4Description: URL Link1; ComponentLink4URL: Product URL:http://www.analog.com/en/ADP1706/productSearch.html
footprint ADI-CP-8-2_N (QFN, 8-Leads, Body 3x3mm, Pitch 0.5mm, Thermal Pad 1.45X1.74mm, IPC Medium Density)
footprint ADI-CP-8-2_L (QFN, 8-Leads, Body 3x3mm, Pitch 0.5mm, Thermal Pad 1.45X1.74mm, IPC High Density)
footprint ADI-CP-8-2_M (QFN, 8-Leads, Body 3x3mm, Pitch 0.5mm, Thermal Pad 1.45X1.74mm, IPC Low Density)
pins: 1 EN (in) "Enable Input. Drive EN high to turn on the regulator; drive it low to turn off the regulator. For automatic startup, connect EN to IN.", 2 GND (power) "Ground.", 3 IN (power) "Regulator Input Supply. Bypass IN to GND with a 4.7 uF or greater capacitor.", 4 IN (power) "Regulator Input Supply. Bypass IN to GND with a 4.7 uF or greater capacitor.", 5 OUT (power) "Regulated Output Voltage. Bypass OUT to GND with a 4.7 uF or greater capacitor.", 6 OUT (power) "Regulated Output Voltage. Bypass OUT to GND with a 4.7 uF or greater capacitor.", 7 SENSE (in) "Sense. Measures the actual output voltage at the load and feeds it to the error amplifier. Connect SENSE as close as possible to the load to minimize the effect of IR drop between the regulator output and the load.", 8 SS (in) "Soft Start. A capacitor connected to this pin determines the soft start time.", 9 EP (power) "The exposed pad on the bottom of the SOIC package and the LFCSP package. EP enhances thermal performance and is electrically connected to GND inside the package. User is recommended to connect EP to the ground plane on the (See Datasheet)"

## ADP1706ACPZ-1.8-R7
designator U?
1 A, Low Dropout, CMOS Linear Regulator, 2.5 to 5.5 V Vin, 1.8 V Vout, Industrial, 8-pin QFN (CP-8-2), Reel; Manufacturer: Analog Devices; PartNumber: ADP1706ACPZ-1.8-R7; Iout max: 1A; Preset Vout Values (V): 1.8; Supply Current IGND @ Small Load: 50uA; Vin (max) (V): 5.5; Vin (min) (V): 2.5; DatasheetVersion: Rev. 0; PackageVersion: 061507-B, 06/2007; PackageReference: CP-8-2; PackageDescription: 8-Pin Lead Frame Chip Scale Package, Body 3 x 3 mm, Pitch 0.5 mm; Supplier 1: Digi-Key; Supplier Part Number 1: ADP1706ACPZ-1.8-R7TR-ND; Supplier 2: Digi-Key; Supplier Part Number 2: ADP1706ACPZ-1.8-R7CT-ND; Supplier 3: Digi-Key; Supplier Part Number 3: ADP1706ACPZ-1.8-R7DKR-ND; Supplier 4: Newark; Supplier Part Number 4: 52M2849; Supplier 5: Mouser; Supplier Part Number 5: 584-ADP1706ACPZ1.8R7; Packing: Reel; Mounting Technology: Surface Mount; ComponentLink1Description: Manufacturer URL; ComponentLink1URL: http://www.analog.com/en/index.html; ComponentLink2Description: Datasheet; ComponentLink2URL: http://www.analog.com/static/imported-files/data_sheets/ADP1706_1707_1708.pdf; ComponentLink3Description: Package Specification; ComponentLink3URL: http://www.analog.com/static/imported-files/packages/56953322593982CP_8_2.pdf; ComponentLink4Description: URL Link1; ComponentLink4URL: Product URL:http://www.analog.com/en/ADP1706/productSearch.html
footprint ADI-CP-8-2_N (QFN, 8-Leads, Body 3x3mm, Pitch 0.5mm, Thermal Pad 1.45X1.74mm, IPC Medium Density)
footprint ADI-CP-8-2_L (QFN, 8-Leads, Body 3x3mm, Pitch 0.5mm, Thermal Pad 1.45X1.74mm, IPC High Density)
footprint ADI-CP-8-2_M (QFN, 8-Leads, Body 3x3mm, Pitch 0.5mm, Thermal Pad 1.45X1.74mm, IPC Low Density)
pins: 1 EN (in) "Enable Input. Drive EN high to turn on the regulator; drive it low to turn off the regulator. For automatic startup, connect EN to IN.", 2 GND (power) "Ground.", 3 IN (power) "Regulator Input Supply. Bypass IN to GND with a 4.7 uF or greater capacitor.", 4 IN (power) "Regulator Input Supply. Bypass IN to GND with a 4.7 uF or greater capacitor.", 5 OUT (power) "Regulated Output Voltage. Bypass OUT to GND with a 4.7 uF or greater capacitor.", 6 OUT (power) "Regulated Output Voltage. Bypass OUT to GND with a 4.7 uF or greater capacitor.", 7 SENSE (in) "Sense. Measures the actual output voltage at the load and feeds it to the error amplifier. Connect SENSE as close as possible to the load to minimize the effect of IR drop between the regulator output and the load.", 8 SS (in) "Soft Start. A capacitor connected to this pin determines the soft start time.", 9 EP (power) "The exposed pad on the bottom of the SOIC package and the LFCSP package. EP enhances thermal performance and is electrically connected to GND inside the package. User is recommended to connect EP to the ground plane on the (See Datasheet)"

## ADP1706ACPZ-1.15R7
designator U?
1 A, Low Dropout, CMOS Linear Regulator, 2.5 to 5.5 V Vin, 1.15 V Vout, Industrial, 8-pin QFN (CP-8-2), Reel; Manufacturer: Analog Devices; PartNumber: ADP1706ACPZ-1.15R7; Iout max: 1A; Preset Vout Values (V): 1.15; Supply Current IGND @ Small Load: 50uA; Vin (max) (V): 5.5; Vin (min) (V): 2.5; DatasheetVersion: Rev. 0; PackageVersion: 061507-B, 06/2007; PackageReference: CP-8-2; PackageDescription: 8-Pin Lead Frame Chip Scale Package, Body 3 x 3 mm, Pitch 0.5 mm; Supplier 1: Digi-Key; Supplier Part Number 1: ADP1706ACPZ-1.15R7TR-ND; Supplier 2: Digi-Key; Supplier Part Number 2: ADP1706ACPZ-1.15R7CT-ND; Supplier 3: Digi-Key; Supplier Part Number 3: ADP1706ACPZ-1.15R7DKR-ND; Supplier 4: Mouser; Supplier Part Number 4: 584-AP1706ACPZ1.15R7; Packing: Reel; Mounting Technology: Surface Mount; ComponentLink1Description: Manufacturer URL; ComponentLink1URL: http://www.analog.com/en/index.html; ComponentLink2Description: Datasheet; ComponentLink2URL: http://www.analog.com/static/imported-files/data_sheets/ADP1706_1707_1708.pdf; ComponentLink3Description: Package Specification; ComponentLink3URL: http://www.analog.com/static/imported-files/packages/56953322593982CP_8_2.pdf; ComponentLink4Description: URL Link1; ComponentLink4URL: Product URL:http://www.analog.com/en/ADP1706/productSearch.html
footprint ADI-CP-8-2_N (QFN, 8-Leads, Body 3x3mm, Pitch 0.5mm, Thermal Pad 1.45X1.74mm, IPC Medium Density)
footprint ADI-CP-8-2_L (QFN, 8-Leads, Body 3x3mm, Pitch 0.5mm, Thermal Pad 1.45X1.74mm, IPC High Density)
footprint ADI-CP-8-2_M (QFN, 8-Leads, Body 3x3mm, Pitch 0.5mm, Thermal Pad 1.45X1.74mm, IPC Low Density)
pins: 1 EN (in) "Enable Input. Drive EN high to turn on the regulator; drive it low to turn off the regulator. For automatic startup, connect EN to IN.", 2 GND (power) "Ground.", 3 IN (power) "Regulator Input Supply. Bypass IN to GND with a 4.7 uF or greater capacitor.", 4 IN (power) "Regulator Input Supply. Bypass IN to GND with a 4.7 uF or greater capacitor.", 5 OUT (power) "Regulated Output Voltage. Bypass OUT to GND with a 4.7 uF or greater capacitor.", 6 OUT (power) "Regulated Output Voltage. Bypass OUT to GND with a 4.7 uF or greater capacitor.", 7 SENSE (in) "Sense. Measures the actual output voltage at the load and feeds it to the error amplifier. Connect SENSE as close as possible to the load to minimize the effect of IR drop between the regulator output and the load.", 8 SS (in) "Soft Start. A capacitor connected to this pin determines the soft start time.", 9 EP (power) "The exposed pad on the bottom of the SOIC package and the LFCSP package. EP enhances thermal performance and is electrically connected to GND inside the package. User is recommended to connect EP to the ground plane on the (See Datasheet)"